# EAGLE library part MBED_NXP_LPC1768 (library new-pca9306)
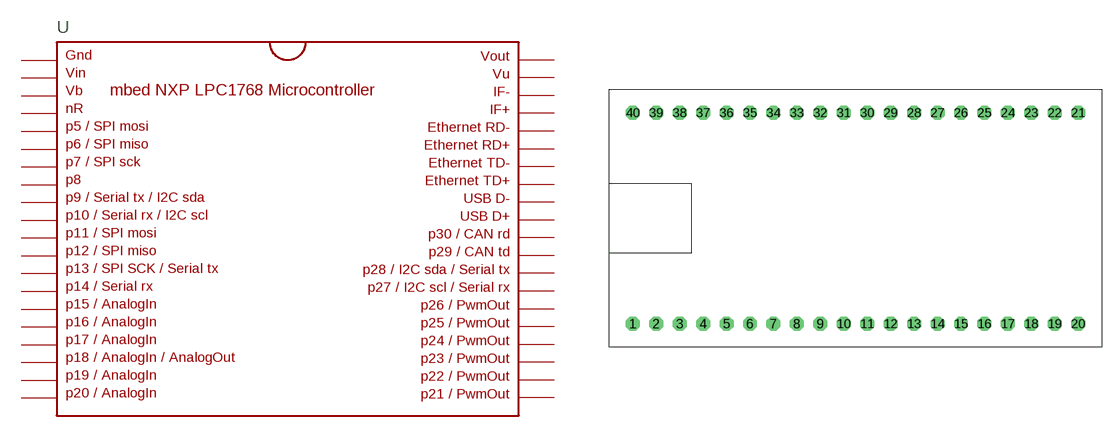
[diagram p91: symbol with the pads of DIL40_0.9; footprint DIL40_0.9]

Designator prefix -

## MBED_NXP_LPC1768  [DIL40_0.9]
1  P$1
2  P$2
3  P$3
4  P$4
5  P$5
6  P$6
7  P$7
8  P$8
9  P$9
10  P$10
11  P$11
12  P$12
13  P$13
14  P$14
15  P$15
16  P$16
17  P$17
18  P$18
19  P$19
20  P$20
21  P$21
22  P$22
23  P$23
24  P$24
25  P$25
26  P$26
27  P$27
28  P$28
29  P$29
30  P$30
31  P$31
32  P$32
33  P$33
34  P$34
35  P$35
36  P$36
37  P$37
38  P$38
39  P$39
40  P$40

## Footprint DIL40_0.9 (pad centres in mm)
Dual inline 40 pin package for mbed microcontroller development platform.
drill 1 pad 1.397 octagon: 1 -22.86,-11.43; 2 -20.32,-11.43; 3 -17.78,-11.43; 4 -15.24,-11.43; 5 -12.7,-11.43; 6 -10.16,-11.43; 7 -7.62,-11.43; 8 -5.08,-11.43; 9 -2.54,-11.43; 10 0,-11.43; 11 2.54,-11.43; 12 5.08,-11.43; 13 7.62,-11.43; 14 10.16,-11.43; 15 12.7,-11.43; 16 15.24,-11.43; 17 17.78,-11.43; 18 20.32,-11.43; 19 22.86,-11.43; 20 25.4,-11.43; 21 25.4,11.43; 22 22.86,11.43; 23 20.32,11.43; 24 17.78,11.43; 25 15.24,11.43; 26 12.7,11.43; 27 10.16,11.43; 28 7.62,11.43; 29 5.08,11.43; 30 2.54,11.43; 31 0,11.43; 32 -2.54,11.43; 33 -5.08,11.43; 34 -7.62,11.43; 35 -10.16,11.43; 36 -12.7,11.43; 37 -15.24,11.43; 38 -17.78,11.43; 39 -20.32,11.43; 40 -22.86,11.43